# EAGLE library part IS61WV25632ALL-* (library memory-issi-asynsram)
256k x 32 high- speed CMOS static RAM 20ns access time 2.2V power supply
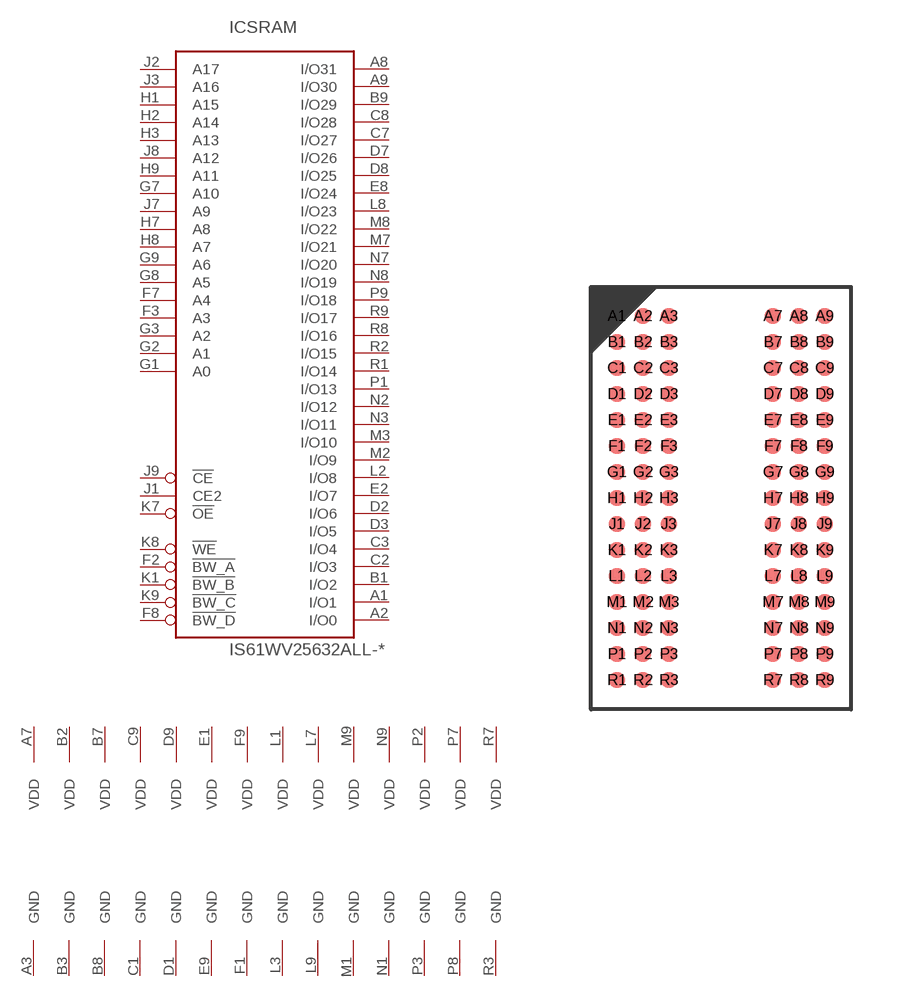
[diagram p160: symbol with the pads of TFBGA90_8X13; footprint TFBGA90_8X13]

Designator prefix IC; gates SRAM=256KX32_TYP1 PWR=PWR_VDD14_GND14

## IS61WV25632ALL-20B  [TFBGA90_8X13]
A1  SRAM:I/O1  hiz
A2  SRAM:I/O0  hiz
A3  PWR:GND  pwr
A7  PWR:VDD  pwr
A8  SRAM:I/O31  hiz
A9  SRAM:I/O30  hiz
B1  SRAM:I/O2  hiz
B2  PWR:VDD  pwr
B3  PWR:GND  pwr
B7  PWR:VDD  pwr
B8  PWR:GND  pwr
B9  SRAM:I/O29  hiz
C1  PWR:GND  pwr
C2  SRAM:I/O3  hiz
C3  SRAM:I/O4  hiz
C7  SRAM:I/O27  hiz
C8  SRAM:I/O28  hiz
C9  PWR:VDD  pwr
D1  PWR:GND  pwr
D2  SRAM:I/O6  hiz
D3  SRAM:I/O5  hiz
D7  SRAM:I/O26  hiz
D8  SRAM:I/O25  hiz
D9  PWR:VDD  pwr
E1  PWR:VDD  pwr
E2  SRAM:I/O7  hiz
E8  SRAM:I/O24  hiz
E9  PWR:GND  pwr
F1  PWR:GND  pwr
F2  SRAM:!BW_A  in
F3  SRAM:A3  in
F7  SRAM:A4  in
F8  SRAM:!BW_D  in
F9  PWR:VDD  pwr
G1  SRAM:A0  in
G2  SRAM:A1  in
G3  SRAM:A2  in
G7  SRAM:A10  in
G8  SRAM:A5  in
G9  SRAM:A6  in
H1  SRAM:A15  in
H2  SRAM:A14  in
H3  SRAM:A13  in
H7  SRAM:A8  in
H8  SRAM:A7  in
H9  SRAM:A11  in
J1  SRAM:CE2  in
J2  SRAM:A17  in
J3  SRAM:A16  in
J7  SRAM:A9  in
J8  SRAM:A12  in
J9  SRAM:!CE  in
K1  SRAM:!BW_B  in
K7  SRAM:!OE  in
K8  SRAM:!WE  in
K9  SRAM:!BW_C  in
L1  PWR:VDD  pwr
L2  SRAM:I/O8  hiz
L3  PWR:GND  pwr
L7  PWR:VDD  pwr
L8  SRAM:I/O23  hiz
L9  PWR:GND  pwr
M1  PWR:GND  pwr
M2  SRAM:I/O9  hiz
M3  SRAM:I/O10  hiz
M7  SRAM:I/O21  hiz
M8  SRAM:I/O22  hiz
M9  PWR:VDD  pwr
N1  PWR:GND  pwr
N2  SRAM:I/O12  hiz
N3  SRAM:I/O11  hiz
N7  SRAM:I/O20  hiz
N8  SRAM:I/O19  hiz
N9  PWR:VDD  pwr
P1  SRAM:I/O13  hiz
P2  PWR:VDD  pwr
P3  PWR:GND  pwr
P7  PWR:VDD  pwr
P8  PWR:GND  pwr
P9  SRAM:I/O18  hiz
R1  SRAM:I/O14  hiz
R2  SRAM:I/O15  hiz
R3  PWR:GND  pwr
R7  PWR:VDD  pwr
R8  SRAM:I/O16  hiz
R9  SRAM:I/O17  hiz

## Footprint TFBGA90_8X13 (pad centres in mm)
TFBGA90 8 x 13 mm, 9 x 15-pin 0.8 mm pitch ball grid array package
smd 0.5 x 0.5: A1 -3.2,5.6; A2 -2.4,5.6; A3 -1.6,5.6; A7 1.6,5.6; A8 2.4,5.6; A9 3.2,5.6; B1 -3.2,4.8; B2 -2.4,4.8; B3 -1.6,4.8; B7 1.6,4.8; B8 2.4,4.8; B9 3.2,4.8; C1 -3.2,4; C2 -2.4,4; C3 -1.6,4; C7 1.6,4; C8 2.4,4; C9 3.2,4; D1 -3.2,3.2; D2 -2.4,3.2; D3 -1.6,3.2; D7 1.6,3.2; D8 2.4,3.2; D9 3.2,3.2; E1 -3.2,2.4; E2 -2.4,2.4; E3 -1.6,2.4; E7 1.6,2.4; E8 2.4,2.4; E9 3.2,2.4; F1 -3.2,1.6; F2 -2.4,1.6; F3 -1.6,1.6; F7 1.6,1.6; F8 2.4,1.6; F9 3.2,1.6; G1 -3.2,0.8; G2 -2.4,0.8; G3 -1.6,0.8; G7 1.6,0.8; G8 2.4,0.8; G9 3.2,0.8; H1 -3.2,0; H2 -2.4,0; H3 -1.6,0; H7 1.6,0; H8 2.4,0; H9 3.2,0; J1 -3.2,-0.8; J2 -2.4,-0.8; J3 -1.6,-0.8; J7 1.6,-0.8; J8 2.4,-0.8; J9 3.2,-0.8; K1 -3.2,-1.6; K2 -2.4,-1.6; K3 -1.6,-1.6; K7 1.6,-1.6; K8 2.4,-1.6; K9 3.2,-1.6; L1 -3.2,-2.4; L2 -2.4,-2.4; L3 -1.6,-2.4; L7 1.6,-2.4; L8 2.4,-2.4; L9 3.2,-2.4; M1 -3.2,-3.2; M2 -2.4,-3.2; M3 -1.6,-3.2; M7 1.6,-3.2; M8 2.4,-3.2; M9 3.2,-3.2; N1 -3.2,-4; N2 -2.4,-4; N3 -1.6,-4; N7 1.6,-4; N8 2.4,-4; N9 3.2,-4; P1 -3.2,-4.8; P2 -2.4,-4.8; P3 -1.6,-4.8; P7 1.6,-4.8; P8 2.4,-4.8; P9 3.2,-4.8; R1 -3.2,-5.6; R2 -2.4,-5.6; R3 -1.6,-5.6; R7 1.6,-5.6; R8 2.4,-5.6; R9 3.2,-5.6